# Altium schematic symbol library Evaluation Board.SchLib: 204 symbols (part 2 of 3)
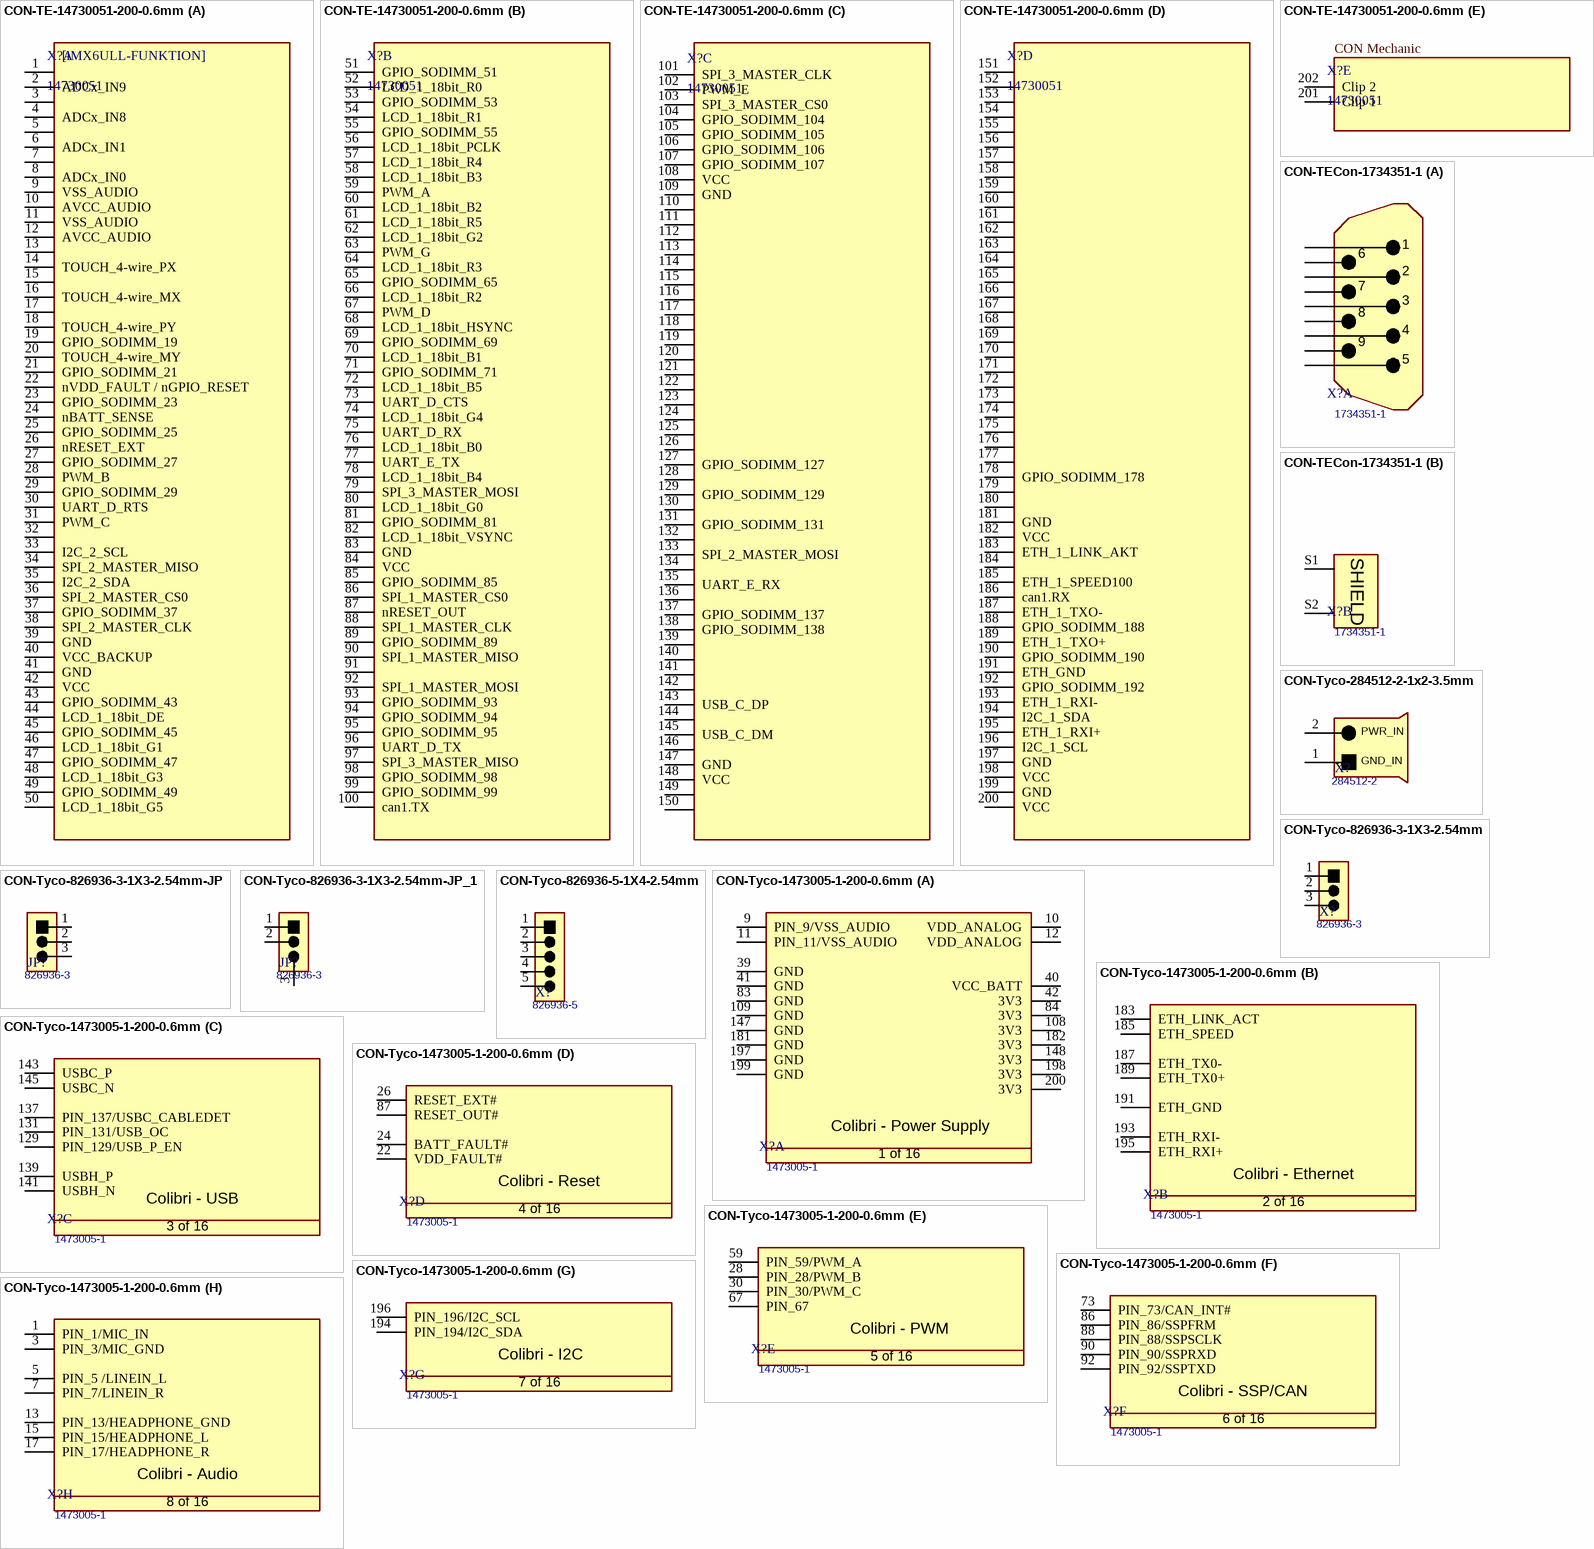
[diagram p12: symbols CON-TE-14730051-200-0.6mm to CON-Tyco-1473005-1-200-0.6mm]

## CON-TE-14730051-200-0.6mm
designator X?, comment 14730051
Conn SO DIMM Socket SKT 200 POS 0.6mm Solder RA SMD Tray; Manufacturer: TE Connectivity; Number of Contacts: 200; Memory Type: DDR SDRAM; Voltage Rating: 2.5V; PCB Mount Retention: With; Gender: Female; Insulation Resistance: 250MR; Contact Current Rating: 500mA; Circuit Application: Power; Connector System: Cable-to-Board; Sealable: No (Without); Pitch: 0.024inch; Row Spacing: 0.244inch; Stack Height: 5.2mm; PCBChecked: initials after Checked; Supplier 1: Newark; Manufacturer Part Number: 14730051; RoHS: Yes; Category: Memory Connectors; Mount: Surface Mount; Number of Pins: 200; Contact Material: Copper Alloy; Contact Plating: Gold; Housing Material: Thermoplastic; Insulation Material: Thermoplastic; Housing Color: Black; Min Operating Temperature: -67°C; Max Operating Temperature: 185°C; Number of Rows: 2; Orientation: Right Angle; Termination: Solder; Packaging: Tray; Package Quantity: 20; Number of Positions: 200; Connector Type: Socket; Length: 71.5mm; Height: 5.2mm; Depth: 26mm; Radiation Hardening: No; ELV: Compliant; Flammability Rating: UL94 V-0; Lead Free: Lead Free; REACH SVHC: No SVHC; ComponentLink1URL: https://datasheet.ciiva.com/19460/898818-19460721.pdf?src-supplier=Jameco; ComponentLink1Description: https://datasheet.ciiva.com/19460/898818-19460721.pdf?src-supplier=Jameco; ComponentLink2URL: https://datasheet.ciiva.com/15171/getdatasheetpartid-93506-15171477.pdf?src-supplier=Verical; ComponentLink2Description: https://datasheet.ciiva.com/15171/getdatasheetpartid-93506-15171477.pdf?src-supplier=Verical; ComponentLink3URL: https://datasheet.ciiva.com/16314/eng-cd-1473005-j2-16314265.pdf?src-supplier=Future+Electronics; ComponentLink3Description: https://datasheet.ciiva.com/16314/eng-cd-1473005-j2-16314265.pdf?src-supplier=Future+Electronics; ComponentLink4URL: https://datasheet.ciiva.com/1105/582309-1105220.pdf?src-supplier=Element14; ComponentLink4Description: https://datasheet.ciiva.com/1105/582309-1105220.pdf?src-supplier=Element14; ComponentLink5URL: https://datasheet.ciiva.com/14156/04821302-14156310.pdf?src-supplier=Distrelec; ComponentLink5Description: https://datasheet.ciiva.com/14156/04821302-14156310.pdf?src-supplier=Distrelec; ComponentLink6URL: https://datasheet.ciiva.com/682/eng-cd-1473005-j2-682632.pdf?src-supplier=Digi-Key; ComponentLink6Description: https://datasheet.ciiva.com/682/eng-cd-1473005-j2-682632.pdf?src-supplier=Digi-Key; ComponentLink7URL: https://datasheet.ciiva.com/3136/eng-cd-1473005-j-3136059.pdf?src-supplier=Avnet; ComponentLink7Description: https://datasheet.ciiva.com/3136/eng-cd-1473005-j-3136059.pdf?src-supplier=Avnet; ComponentLink8URL: https://datasheet.ciiva.com/16469/eng-cd-1473005-j-16469341.pdf?src-supplier=Avnet+Asia; ComponentLink8Description: https://datasheet.ciiva.com/16469/eng-cd-1473005-j-16469341.pdf?src-supplier=Avnet+Asia; IPC7352C: initials after Checked; SCHChecked: initials after Checked
footprint T_TE_14730051 (SODIMM Connector)
part A pins: 1, 2 ADCx_IN9, 3, 4 ADCx_IN8, 5, 6 ADCx_IN1, 7, 8 ADCx_IN0, 9 VSS_AUDIO, 10 AVCC_AUDIO, 11 VSS_AUDIO, 12 AVCC_AUDIO, 13, 14 TOUCH_4-wire_PX, 15, 16 TOUCH_4-wire_MX, 17, 18 TOUCH_4-wire_PY, 19 GPIO_SODIMM_19, 20 TOUCH_4-wire_MY, 21 GPIO_SODIMM_21, 22 nVDD_FAULT / nGPIO_RESET, 23 GPIO_SODIMM_23, 24 nBATT_SENSE, 25 GPIO_SODIMM_25, 26 nRESET_EXT, 27 GPIO_SODIMM_27, 28 PWM_B, 29 GPIO_SODIMM_29, 30 UART_D_RTS, 31 PWM_C, 32, 33 I2C_2_SCL, 34 SPI_2_MASTER_MISO, 35 I2C_2_SDA, 36 SPI_2_MASTER_CS0, 37 GPIO_SODIMM_37, 38 SPI_2_MASTER_CLK, 39 GND, 40 VCC_BACKUP, 41 GND, 42 VCC, 43 GPIO_SODIMM_43, 44 LCD_1_18bit_DE, 45 GPIO_SODIMM_45, 46 LCD_1_18bit_G1, 47 GPIO_SODIMM_47, 48 LCD_1_18bit_G3, 49 GPIO_SODIMM_49, 50 LCD_1_18bit_G5
part B pins: 51 GPIO_SODIMM_51, 52 LCD_1_18bit_R0, 53 GPIO_SODIMM_53, 54 LCD_1_18bit_R1, 55 GPIO_SODIMM_55, 56 LCD_1_18bit_PCLK, 57 LCD_1_18bit_R4, 58 LCD_1_18bit_B3, 59 PWM_A, 60 LCD_1_18bit_B2, 61 LCD_1_18bit_R5, 62 LCD_1_18bit_G2, 63 PWM_G, 64 LCD_1_18bit_R3, 65 GPIO_SODIMM_65, 66 LCD_1_18bit_R2, 67 PWM_D, 68 LCD_1_18bit_HSYNC, 69 GPIO_SODIMM_69, 70 LCD_1_18bit_B1, 71 GPIO_SODIMM_71, 72 LCD_1_18bit_B5, 73 UART_D_CTS, 74 LCD_1_18bit_G4, 75 UART_D_RX, 76 LCD_1_18bit_B0, 77 UART_E_TX, 78 LCD_1_18bit_B4, 79 SPI_3_MASTER_MOSI, 80 LCD_1_18bit_G0, 81 GPIO_SODIMM_81, 82 LCD_1_18bit_VSYNC, 83 GND, 84 VCC, 85 GPIO_SODIMM_85, 86 SPI_1_MASTER_CS0, 87 nRESET_OUT, 88 SPI_1_MASTER_CLK, 89 GPIO_SODIMM_89, 90 SPI_1_MASTER_MISO, 91, 92 SPI_1_MASTER_MOSI, 93 GPIO_SODIMM_93, 94 GPIO_SODIMM_94, 95 GPIO_SODIMM_95, 96 UART_D_TX, 97 SPI_3_MASTER_MISO, 98 GPIO_SODIMM_98, 99 GPIO_SODIMM_99, 100 can1.TX
part C pins: 101 SPI_3_MASTER_CLK, 102 PWM_E, 103 SPI_3_MASTER_CS0, 104 GPIO_SODIMM_104, 105 GPIO_SODIMM_105, 106 GPIO_SODIMM_106, 107 GPIO_SODIMM_107, 108 VCC, 109 GND, 110, 111, 112, 113, 114, 115, 116, 117, 118, 119, 120, 121, 122, 123, 124, 125, 126, 127 GPIO_SODIMM_127, 128, 129 GPIO_SODIMM_129, 130, 131 GPIO_SODIMM_131, 132, 133 SPI_2_MASTER_MOSI, 134, 135 UART_E_RX, 136, 137 GPIO_SODIMM_137, 138 GPIO_SODIMM_138, 139, 140, 141, 142, 143 USB_C_DP, 144, 145 USB_C_DM, 146, 147 GND, 148 VCC, 149, 150
part D pins: 151, 152, 153, 154, 155, 156, 157, 158, 159, 160, 161, 162, 163, 164, 165, 166, 167, 168, 169, 170, 171, 172, 173, 174, 175, 176, 177, 178 GPIO_SODIMM_178, 179, 180, 181 GND, 182 VCC, 183 ETH_1_LINK_AKT, 184, 185 ETH_1_SPEED100, 186 can1.RX, 187 ETH_1_TXO-, 188 GPIO_SODIMM_188, 189 ETH_1_TXO+, 190 GPIO_SODIMM_190, 191 ETH_GND, 192 GPIO_SODIMM_192, 193 ETH_1_RXI-, 194 I2C_1_SDA, 195 ETH_1_RXI+, 196 I2C_1_SCL, 197 GND, 198 VCC, 199 GND, 200 VCC
part E pins: 201 Clip 1, 202 Clip 2
part A text: [iMX6ULL-FUNKTION]
part E text: CON Mechanic

## CON-TECon-1734351-1
designator X?, comment 1734351-1
9 pin male D-SUB connector; Manufacturer Name: TE Connectivity; No. of ways: 9; PCBChecked: initials after Checked; IPC7352C: initials after Checked; SCHChecked: initials after Checked; Manufacturer Part No.: 1734351-1
footprint T_TECon_1734351-1 (9 pin male D-SUB connector)
part A pins: 1 DCD, 2 RXD, 3 TXD, 4 DTR, 5 GND, 6 DSR, 7 RTS, 8 CTS, 9 RI
part B pins: S1 SHIELD, S2 SHIELD

## CON-Tyco-284512-2-1x2-3.5mm
designator X?, comment 284512-2
Power Connector; Manufacturer Name: Tyco; No. of ways: 1x2; Pitch: 3.5mm; PCBChecked: initials after Checked; IPC7352C: initials after Checked; SCHChecked: initials after Checked; Manufacturer Part No.: 284512-2
footprint T_TYCO_284512-2 (Power Connector 3.5mm)
pins: 1 GND_IN, 2 PWR_IN

## CON-Tyco-826936-3-1X3-2.54mm
designator X?, comment 826936-3
Header, 3-Pin; Manufacturer Name: Tyco; No. of ways: 1X3; Pitch: 2.54mm; PCBChecked: initials after Checked; IPC7352C: initials after Checked; SCHChecked: initials after Checked; Manufacturer Part No.: 826936-3
footprint T_TYCO_826936-3 (Connector; Header; 3 Position)
pins: 1, 2, 3

## CON-Tyco-826936-3-1X3-2.54mm-JP
designator JP?, comment 826936-3
Jumper, 3-Pin; Manufacturer Name: Tyco; No. of ways: 1X3; Pitch: 2.54mm; PCBChecked: initials after Checked; IPC7352C: initials after Checked; SCHChecked: initials after Checked; Manufacturer Part No.: 826936-3
footprint T_TYCO_826936-3 (Connector; Header; 3 Position)
pins: 1, 2, 3

## CON-Tyco-826936-3-1X3-2.54mm-JP_1
designator JP?, comment 826936-3
Jumper, 3-Pin; Manufacturer Name: Tyco; No. of ways: 1X3; Pitch: 2.54mm; PCBChecked: initials after Checked; IPC7352C: initials after Checked; SCHChecked: initials after Checked; Manufacturer Part No.: 826936-3
footprint T_TYCO_826936-3 (Connector; Header; 3 Position)
pins: 1, 2, 3

## CON-Tyco-826936-5-1X4-2.54mm
designator X?, comment 826936-5
Header, 5-Pin; Manufacturer Name: Tyco; No. of ways: 1X5; Pitch: 2.54mm; PCBChecked: initials after Checked; IPC7352C: initials after Checked; SCHChecked: initials after Checked; Manufacturer Part No.: 826936-5
footprint T_TYCO_826936-5 (Connector, Header, 4 Position, 2.54mm pitch)
pins: 1, 2, 3, 4, 5

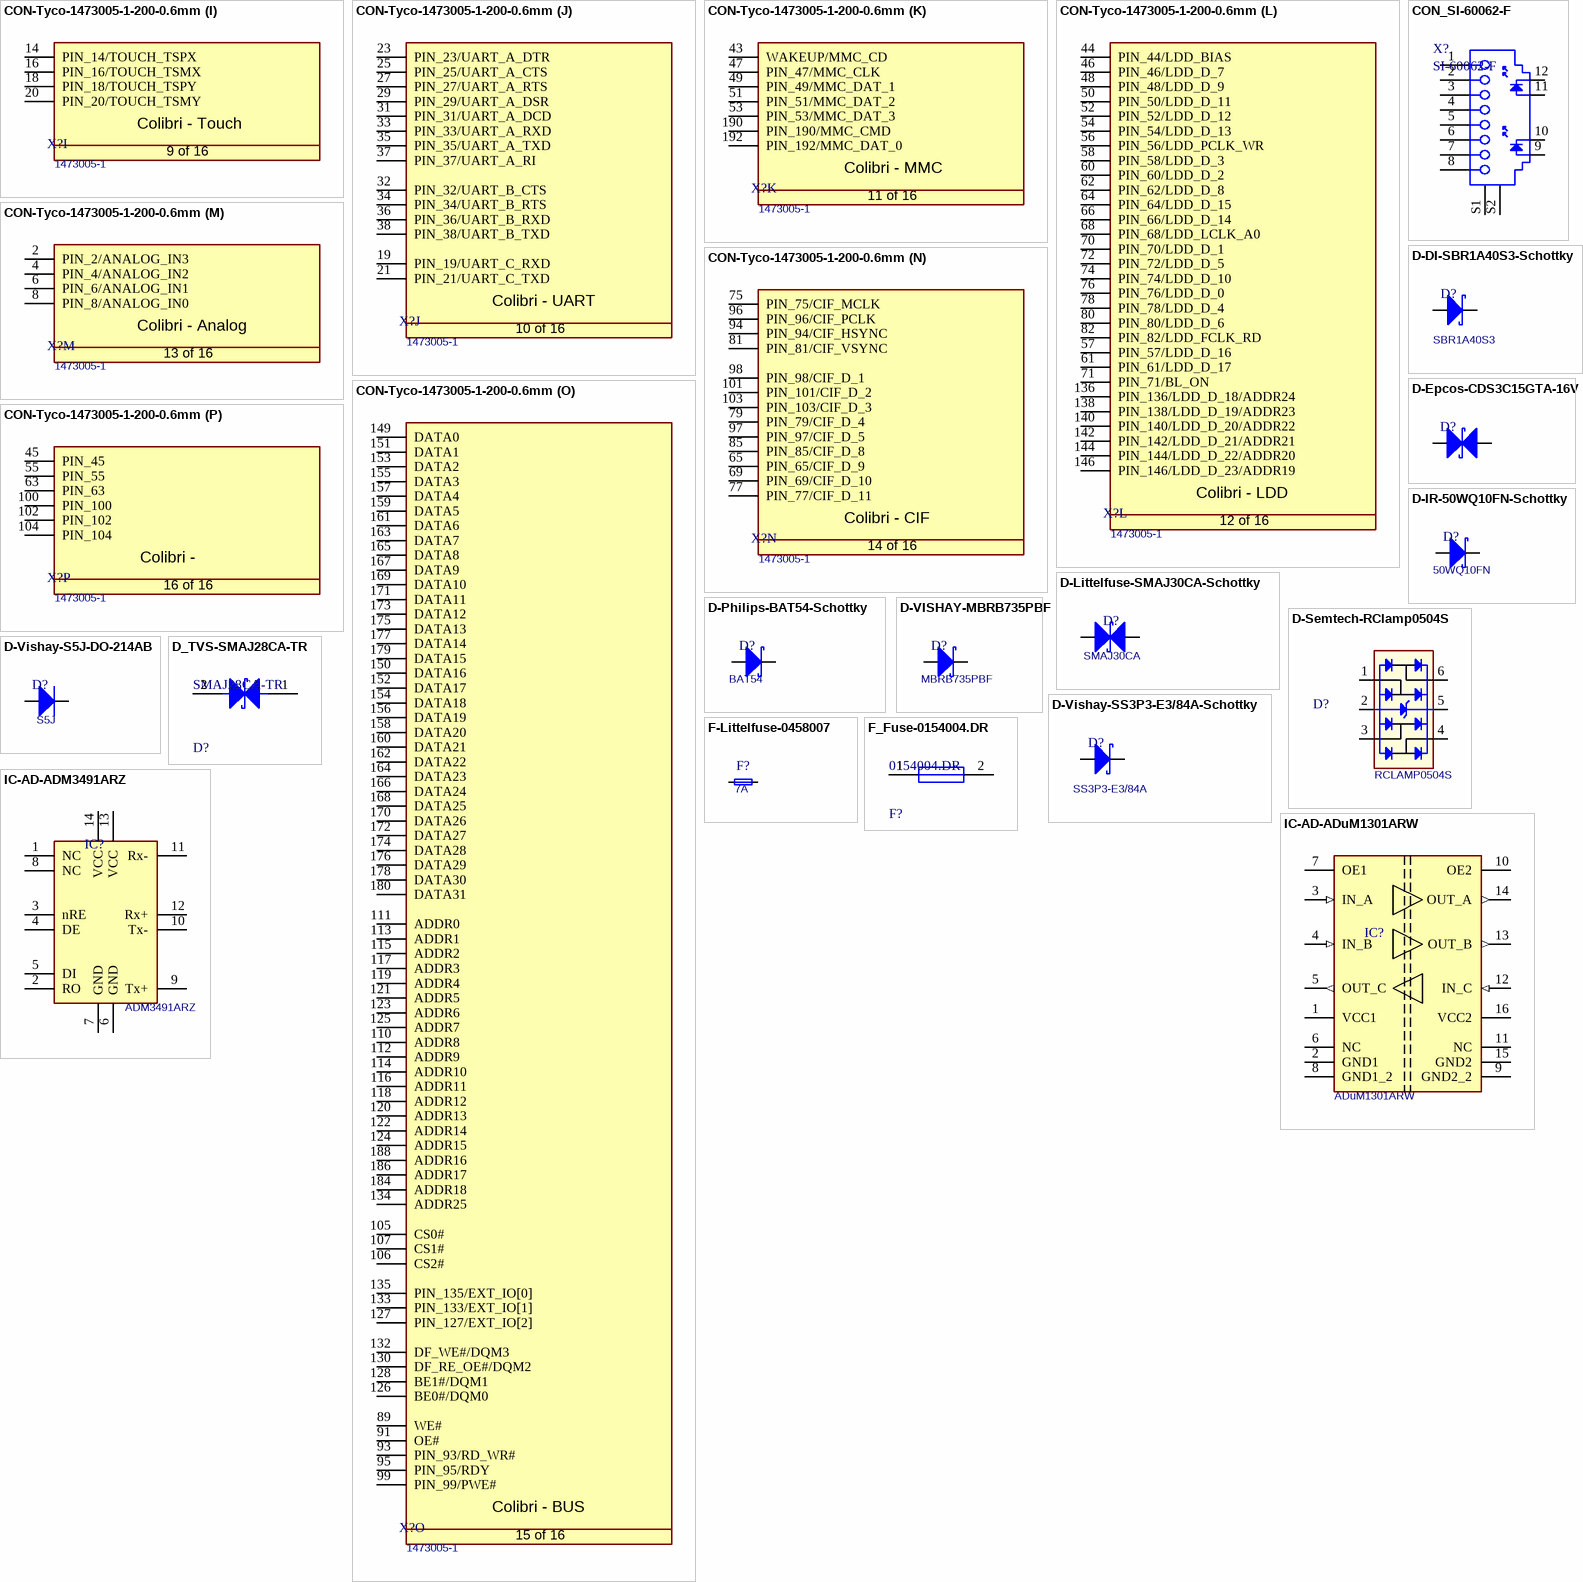
[diagram p7: symbols CON-Tyco-1473005-1-200-0.6mm to IC-AD-ADuM1301ARW]

## CON-Tyco-1473005-1-200-0.6mm
designator X?  Manufacturer Part No.: 1473005-1  (hidden comment: CON-Tyco-1473005-1-200-0.6mm)
SODIMM Connector; Manufacturer Name: Tyco; No. of ways: 200; PCBChecked: initials after Checked; IPC7352C: initials after Checked; SCHChecked: initials after Checked
footprint T_Tyco_1473005-1 (SODIMM Connector)
part A pins: 9 PIN_9/VSS_AUDIO, 10 VDD_ANALOG, 11 PIN_11/VSS_AUDIO, 12 VDD_ANALOG, 39 GND (power), 40 VCC_BATT (power), 41 GND (power), 42 3V3 (power), 83 GND (power), 84 3V3 (power), 108 3V3, 109 GND (power), 147 GND (power), 148 3V3, 181 GND (power), 182 3V3 (power), 197 GND (power), 198 3V3 (power), 199 GND (power), 200 3V3 (power)
part B pins: 183 ETH_LINK_ACT, 185 ETH_SPEED, 187 ETH_TX0-, 189 ETH_TX0+, 191 ETH_GND, 193 ETH_RXI-, 195 ETH_RXI+
part C pins: 129 PIN_129/USB_P_EN, 131 PIN_131/USB_OC, 137 PIN_137/USBC_CABLEDET, 139 USBH_P, 141 USBH_N, 143 USBC_P, 145 USBC_N
part D pins: 22 VDD_FAULT#, 24 BATT_FAULT#, 26 RESET_EXT#, 87 RESET_OUT#
part E pins: 28 PIN_28/PWM_B, 30 PIN_30/PWM_C, 59 PIN_59/PWM_A, 67 PIN_67
part F pins: 73 PIN_73/CAN_INT#, 86 PIN_86/SSPFRM, 88 PIN_88/SSPSCLK, 90 PIN_90/SSPRXD, 92 PIN_92/SSPTXD
part G pins: 194 PIN_194/I2C_SDA, 196 PIN_196/I2C_SCL
part H pins: 1 PIN_1/MIC_IN, 3 PIN_3/MIC_GND, 5 PIN_5 /LINEIN_L, 7 PIN_7/LINEIN_R, 13 PIN_13/HEADPHONE_GND, 15 PIN_15/HEADPHONE_L, 17 PIN_17/HEADPHONE_R
part I pins: 14 PIN_14/TOUCH_TSPX, 16 PIN_16/TOUCH_TSMX, 18 PIN_18/TOUCH_TSPY, 20 PIN_20/TOUCH_TSMY
part J pins: 19 PIN_19/UART_C_RXD, 21 PIN_21/UART_C_TXD, 23 PIN_23/UART_A_DTR, 25 PIN_25/UART_A_CTS, 27 PIN_27/UART_A_RTS, 29 PIN_29/UART_A_DSR, 31 PIN_31/UART_A_DCD, 32 PIN_32/UART_B_CTS, 33 PIN_33/UART_A_RXD, 34 PIN_34/UART_B_RTS, 35 PIN_35/UART_A_TXD, 36 PIN_36/UART_B_RXD, 37 PIN_37/UART_A_RI, 38 PIN_38/UART_B_TXD
part K pins: 43 WAKEUP/MMC_CD, 47 PIN_47/MMC_CLK, 49 PIN_49/MMC_DAT_1, 51 PIN_51/MMC_DAT_2, 53 PIN_53/MMC_DAT_3, 190 PIN_190/MMC_CMD, 192 PIN_192/MMC_DAT_0
part L pins: 44 PIN_44/LDD_BIAS, 46 PIN_46/LDD_D_7, 48 PIN_48/LDD_D_9, 50 PIN_50/LDD_D_11, 52 PIN_52/LDD_D_12, 54 PIN_54/LDD_D_13, 56 PIN_56/LDD_PCLK_WR, 57 PIN_57/LDD_D_16, 58 PIN_58/LDD_D_3, 60 PIN_60/LDD_D_2, 61 PIN_61/LDD_D_17, 62 PIN_62/LDD_D_8, 64 PIN_64/LDD_D_15, 66 PIN_66/LDD_D_14, 68 PIN_68/LDD_LCLK_A0, 70 PIN_70/LDD_D_1, 71 PIN_71/BL_ON, 72 PIN_72/LDD_D_5, 74 PIN_74/LDD_D_10, 76 PIN_76/LDD_D_0, 78 PIN_78/LDD_D_4, 80 PIN_80/LDD_D_6, 82 PIN_82/LDD_FCLK_RD, 136 PIN_136/LDD_D_18/ADDR24, 138 PIN_138/LDD_D_19/ADDR23, 140 PIN_140/LDD_D_20/ADDR22, 142 PIN_142/LDD_D_21/ADDR21, 144 PIN_144/LDD_D_22/ADDR20, 146 PIN_146/LDD_D_23/ADDR19
part M pins: 2 PIN_2/ANALOG_IN3, 4 PIN_4/ANALOG_IN2, 6 PIN_6/ANALOG_IN1, 8 PIN_8/ANALOG_IN0
part N pins: 65 PIN_65/CIF_D_9, 69 PIN_69/CIF_D_10, 75 PIN_75/CIF_MCLK, 77 PIN_77/CIF_D_11, 79 PIN_79/CIF_D_4, 81 PIN_81/CIF_VSYNC, 85 PIN_85/CIF_D_8, 94 PIN_94/CIF_HSYNC, 96 PIN_96/CIF_PCLK, 97 PIN_97/CIF_D_5, 98 PIN_98/CIF_D_1, 101 PIN_101/CIF_D_2, 103 PIN_103/CIF_D_3
part O pins: 89 WE#, 91 OE#, 93 PIN_93/RD_WR#, 95 PIN_95/RDY, 99 PIN_99/PWE#, 105 CS0#, 106 CS2#, 107 CS1#, 110 ADDR8, 111 ADDR0, 112 ADDR9, 113 ADDR1, 114 ADDR10, 115 ADDR2, 116 ADDR11, 117 ADDR3, 118 ADDR12, 119 ADDR4, 120 ADDR13, 121 ADDR5, 122 ADDR14, 123 ADDR6, 124 ADDR15, 125 ADDR7, 126 BE0#/DQM0, 127 PIN_127/EXT_IO[2], 128 BE1#/DQM1, 130 DF_RE_OE#/DQM2, 132 DF_WE#/DQM3, 133 PIN_133/EXT_IO[1], 134 ADDR25, 135 PIN_135/EXT_IO[0], 149 DATA0, 150 DATA16, 151 DATA1, 152 DATA17, 153 DATA2, 154 DATA18, 155 DATA3, 156 DATA19, 157 DATA4, 158 DATA20, 159 DATA5, 160 DATA21, 161 DATA6, 162 DATA22, 163 DATA7, 164 DATA23, 165 DATA8, 166 DATA24, 167 DATA9, 168 DATA25, 169 DATA10, 170 DATA26, 171 DATA11, 172 DATA27, 173 DATA12, 174 DATA28, 175 DATA13, 176 DATA29, 177 DATA14, 178 DATA30, 179 DATA15, 180 DATA31, 184 ADDR18, 186 ADDR17, 188 ADDR16
part P pins: 45 PIN_45, 55 PIN_55, 63 PIN_63, 100 PIN_100, 102 PIN_102, 104 PIN_104
part A text: Colibri - Power Supply; 1 of 16
part B text: Colibri - Ethernet; 2 of 16
part C text: Colibri - USB; 3 of 16
part D text: Colibri - Reset; 4 of 16
part E text: Colibri - PWM; 5 of 16
part F text: Colibri - SSP/CAN; 6 of 16
part G text: Colibri - I2C; 7 of 16
part H text: Colibri - Audio; 8 of 16
part I text: Colibri - Touch; 9 of 16
part J text: Colibri - UART; 10 of 16
part K text: Colibri - MMC; 11 of 16
part L text: Colibri - LDD; 12 of 16
part M text: Colibri - Analog; 13 of 16
part N text: Colibri - CIF; 14 of 16
part O text: Colibri - BUS; 15 of 16
part P text: Colibri -; 16 of 16

## CON_SI-60062-F
designator X?, comment SI-60062-F
Magjack 1:1 full magnetics LED; Manufacturer: Bel; Shielding: Shielded; Connector Type: RJ45,Socket; Number of Cores per Jack: 4; Number of Ports: 1; Direction: Down; Number of Contacts: 8; Gender: Female; Pitch: 2.54mm; Supplier 1: Digi-Key; Manufacturer Part Number: SI-60062-F; RoHS: Yes; Category: Modular / Ethernet Connectors; Mount: Through Hole; Case/Package: Metal; Contact Material: Copper Alloy,Gold; Contact Plating: Gold; Color: Green,Yellow,Silver; Housing Material: Thermoplastic; Min Operating Temperature: 0°C; Max Operating Temperature: 70°C; Packaging: Tray; Package Quantity: 50; Number of Rows: 1; Orientation: Right Angle; Termination: Solder; Number of Positions Loaded: 8; Number of Positions: 8; Length: 17.98mm; Depth: 21.59mm; Width: 17.98mm; REACH SVHC: No SVHC; Lead Free: Lead Free; ComponentLink1URL: https://datasheet.ciiva.com/687/si-60062-f-687803.pdf?src-supplier=Avnet; ComponentLink1Description: https://datasheet.ciiva.com/687/si-60062-f-687803.pdf?src-supplier=Avnet; ComponentLink2URL: https://datasheet.ciiva.com/687/si-60062-f-687803.pdf?src-supplier=Digi-Key; ComponentLink2Description: https://datasheet.ciiva.com/687/si-60062-f-687803.pdf?src-supplier=Digi-Key; ComponentLink3URL: https://datasheet.ciiva.com/26360/24-0488-26360800.pdf?src-supplier=Rapid+Electronics; ComponentLink3Description: https://datasheet.ciiva.com/26360/24-0488-26360800.pdf?src-supplier=Rapid+Electronics; ComponentLink4URL: https://datasheet.ciiva.com/11726/0900766b81002b99-11726263.pdf?src-supplier=RSComponents; ComponentLink4Description: https://datasheet.ciiva.com/11726/0900766b81002b99-11726263.pdf?src-supplier=RSComponents; ComponentLink5URL: https://datasheet.ciiva.com/8042/1523782-8042508.pdf?src-supplier=Element14; ComponentLink5Description: https://datasheet.ciiva.com/8042/1523782-8042508.pdf?src-supplier=Element14; ComponentLink6URL: https://datasheet.ciiva.com/41445/001196185-da-01-en-magjack-1xrj45-mit-leds-41445639.pdf?src-supplier=Conrad; ComponentLink6Description: https://datasheet.ciiva.com/41445/001196185-da-01-en-magjack-1xrj45-mit-leds-41445639.pdf?src-supplier=Conrad; Supplier Part Number 1: 380-1106-ND; Stock 1: 3565
footprint BELF-SI-60062-F_V (MagJack, 14-Leads, Body 21.59x16.13mm)
pins: 1 TD+, 2 TCT, 3 TD-, 4 NC, 5 RD+, 6 RCT, 7 RD-, 8 GND, 9, 10, 11, 12, S1, S2

## D-DI-SBR1A40S3-Schottky
designator D?  Manufacturer Part No.: SBR1A40S3
SUPER BARRIER RECTIFIER Schottky Diode; Manufacturer Name: Diodes Incorporated; PCBChecked: initials after Checked; IPC7352C: initials after Checked; SCHChecked: initials after Checked
footprint TO228P1003X238-3N
pins: 1, 3

## D-Epcos-CDS3C15GTA-16V
designator D?
Bidirectional ESD protection; Manufacturer Name: Epcos; Manufacturer Part No.: CDS3C15GTA; PCBChecked: initials after Checked; IPC7352C: initials after Checked; SCHChecked: initials after Checked
footprint T_Epcos_CDS3C15GTA (Bidirectional ESD Protection)
pins: P1 GND, P2 I/O line

## D-IR-50WQ10FN-Schottky
designator D?  Manufacturer Part No.: 50WQ10FN
Schottky Diode; Manufacturer Name: International Rectifier; PCBChecked: initials after Checked; IPC7352C: initials after Checked; SCHChecked: initials after Checked
footprint TO228P1003X238-3N
pins: 1, 3

## D-Littelfuse-SMAJ30CA-Schottky
designator D?  Manufacturer Part No.: SMAJ30CA
Bidirectional ESD protection; Manufacturer Name: Littelfuse; PCBChecked: initials after Checked; IPC7352C: initials after Checked; SCHChecked: initials after Checked
footprint T_LITTLEFUSE_SMAJ30CA (Bidirectional ESD protection)
pins: 1 Cathode, 2 Anode

## D-Philips-BAT54-Schottky
designator D?, comment BAT54
BAT54 Schottky Diode; Manufacturer Name: Philips; PCBChecked: initials after Checked; IPC7352C: initials after Checked; SCHChecked: initials after Checked; Manufacturer Part No.: BAT54
footprint SOT95P230X110-3N
pins: 1, 3

## D-Semtech-RClamp0504S
designator D?, comment RCLAMP0504S
TVS Array low cap; Manufacturer Name: Semtech; PCBChecked: initials after Checked; IPC7352C: initials after Checked; SCHChecked: initials after Checked; Manufacturer Part No.: RCLAMP0504S
footprint T_SOT95P285X90-6N (Footprint not found)
pins: 1 (power), 2 (power), 3 (power), 4 (power), 5 (power), 6 (power)

## D-VISHAY-MBRB735PBF
designator D?, comment MBRB735PBF
MBRB735PBF Schottky Diode; Manufacturer Name: Vishay; PCBChecked: initials after Checked; IPC7352C: initials after Checked; SCHChecked: initials after Checked; Manufacturer Part No.: MBRB735PBF
footprint T_VISHAY_MBRB735PBF
pins: 2, 3

## D-Vishay-S5J-DO-214AB
designator D?, comment S5J
Vishay S5J Rectifier; PCBChecked: initials after Checked; Manufacturer Name: Vishay; IPC7352C: initials after Checked; SCHChecked: initials after Checked; Manufacturer Part No.: S5J
footprint T_VISHAY_S5J (5A Rectifier)
pins: 1, 2

## D-Vishay-SS3P3-E3/84A-Schottky
designator D?, comment Manufacturer Part No.: SS3P3-E3/84A  (hidden comment: SS3P3)
SS3P3-E3/84A Schottky Diode; Manufacturer Name: Vishay; PCBChecked: initials after Checked; IPC7352C: initials after Checked; SCHChecked: initials after Checked
footprint T_VISHAY_SS3P3 (Schottky Barrier Rectifiers. 2-Leads, Body 3.7x1.88mm)
pins: 1, 2

## D_TVS-SMAJ28CA-TR
designator D?, comment SMAJ28CA-TR
TVS DIODE 28V 59V SMA; Manufacturer: STMicroelectronics; Direction: Bidirectional; Standoff Height: 0.05mm; Peak Pulse Current: 8.8A; Max Junction Temp: +150°C; Peak Pulse Power: 400W; Breakdown Voltage: 31.1V; Clamping Voltage: 45.4V; Number Of Channels: 1; Octopart: https://octopart.com/smaj28ca-tr-stmicroelectronics-347152; Height: 2.65mm; Automotive: No; Device Class L2: TVS Diodes; Package: DO-214AC; Digikey Description: TVS DIODE 28V 59V SMA; Reverse Standoff Voltage: 28V; Lead Free: Yes; Temperature Range Low: -55°C; Temperature Range High: +150°C; RoHS: TRUE; Device Class L3: unset; ComponentLink2Description: Datasheet; Temperature: -55°C to +150°C; ComponentLink2URL: https://upverter.com/datasheet/1a345e3312871ddec8fb928d76575f5007a64ef0.pdf; Mouser Description: TVS Diodes - Transient Voltage Suppressors 400W 28V Bidirect; Category: Diode; Manufacturer Part Number: SMAJ28CA-TR; Device Class L1: Circuit Protection
footprint D-SMAJ28CA-TR-MFG (TVS Diode SMAJ28CA)
pins: 1, 2

## F-Littelfuse-0458007
designator F?, comment 7A
Fuse 7A Fast; Manufacturer Part No.: 0458007; Manufacturer Name: Littelfuse; PCBChecked: initials after Checked; IPC7352C: initials after Checked; SCHChecked: initials after Checked; Value: 7A
footprint T_Littelfuse_0458 (Fast Fuse)
pins: 1, 2

## F_Fuse-0154004.DR
designator F?, comment 0154004.DR
FUSE BRD MNT 4A 125VAC/VDC 2SMD; Manufacturer: Littelfuse; Fuse Blow Speed: Fast; Max Fuse Ac Voltage: 125V; Lead Free: Yes; Device Class L3: unset; Manufacturer Part Number: 0154004.DR; Device Class L2: Fuses; Package: 0154; ComponentLink2Description: Datasheet; Temperature Range Low: -55°C; Temperature Range High: +125°C; Device Class L1: Circuit Protection; Height: 3.81mm; Temperature: -55°C to +125°C; Mouser Description: Surface Mount Fuses Fuseblock w/ fuse 4A OMNI BLOK 154; Automotive: No; Digikey Description: FUSE BRD MNT 4A 125VAC/VDC 2SMD; RoHS: TRUE; Category: Fuse; Fuse Current: 4A; Max Fuse Dc Voltage: 125V; ComponentLink2URL: https://www.littelfuse.com/~/media/electronics/datasheets/fuses/littelfuse_fuse_154_154t_154l_154tl_datasheet.pdf.pdf; Octopart: https://octopart.com/0154004.dr-littelfuse-565861
footprint F_FUSE-154005 (Littlefuse 154005 im Sockel)
pins: 1, 2

## IC-AD-ADM3491ARZ
designator IC?, comment ADM3491ARZ
ADM3491ARZ RS-485/RS-422 transceiver; Manufacturer Name: Analog Devices; PCBChecked: initials after Checked; Manufacturer Part No.: ADM3491ARZ; IPC7352C: initials after Checked; SCHChecked: initials after Checked
footprint SOIC127P600X175-14N (SOIC 14 pin)
pins: 1 NC, 2 RO, 3 nRE, 4 DE, 5 DI, 6 GND, 7 GND, 8 NC, 9 Tx+, 10 Tx-, 11 Rx-, 12 Rx+, 13 VCC, 14 VCC

## IC-AD-ADuM1301ARW
designator IC?, comment ADuM1301ARW
Digital Isolator; Manufacturer Name: Analog Devices; PCBChecked: initials after Checked; Manufacturer Part No.: ADuM1301ARW; IPC7352C: initials after Checked; SCHChecked: initials after Checked
footprint T_AD_ADuM1300ARW (SOIC _W 16 pin)
pins: 1 VCC1, 2 GND1 (power), 3 IN_A (in), 4 IN_B (in), 5 OUT_C (out), 6 NC, 7 OE1, 8 GND1_2 (power), 9 GND2_2 (power), 10 OE2, 11 NC, 12 IN_C (in), 13 OUT_B (out), 14 OUT_A (out), 15 GND2 (power), 16 VCC2

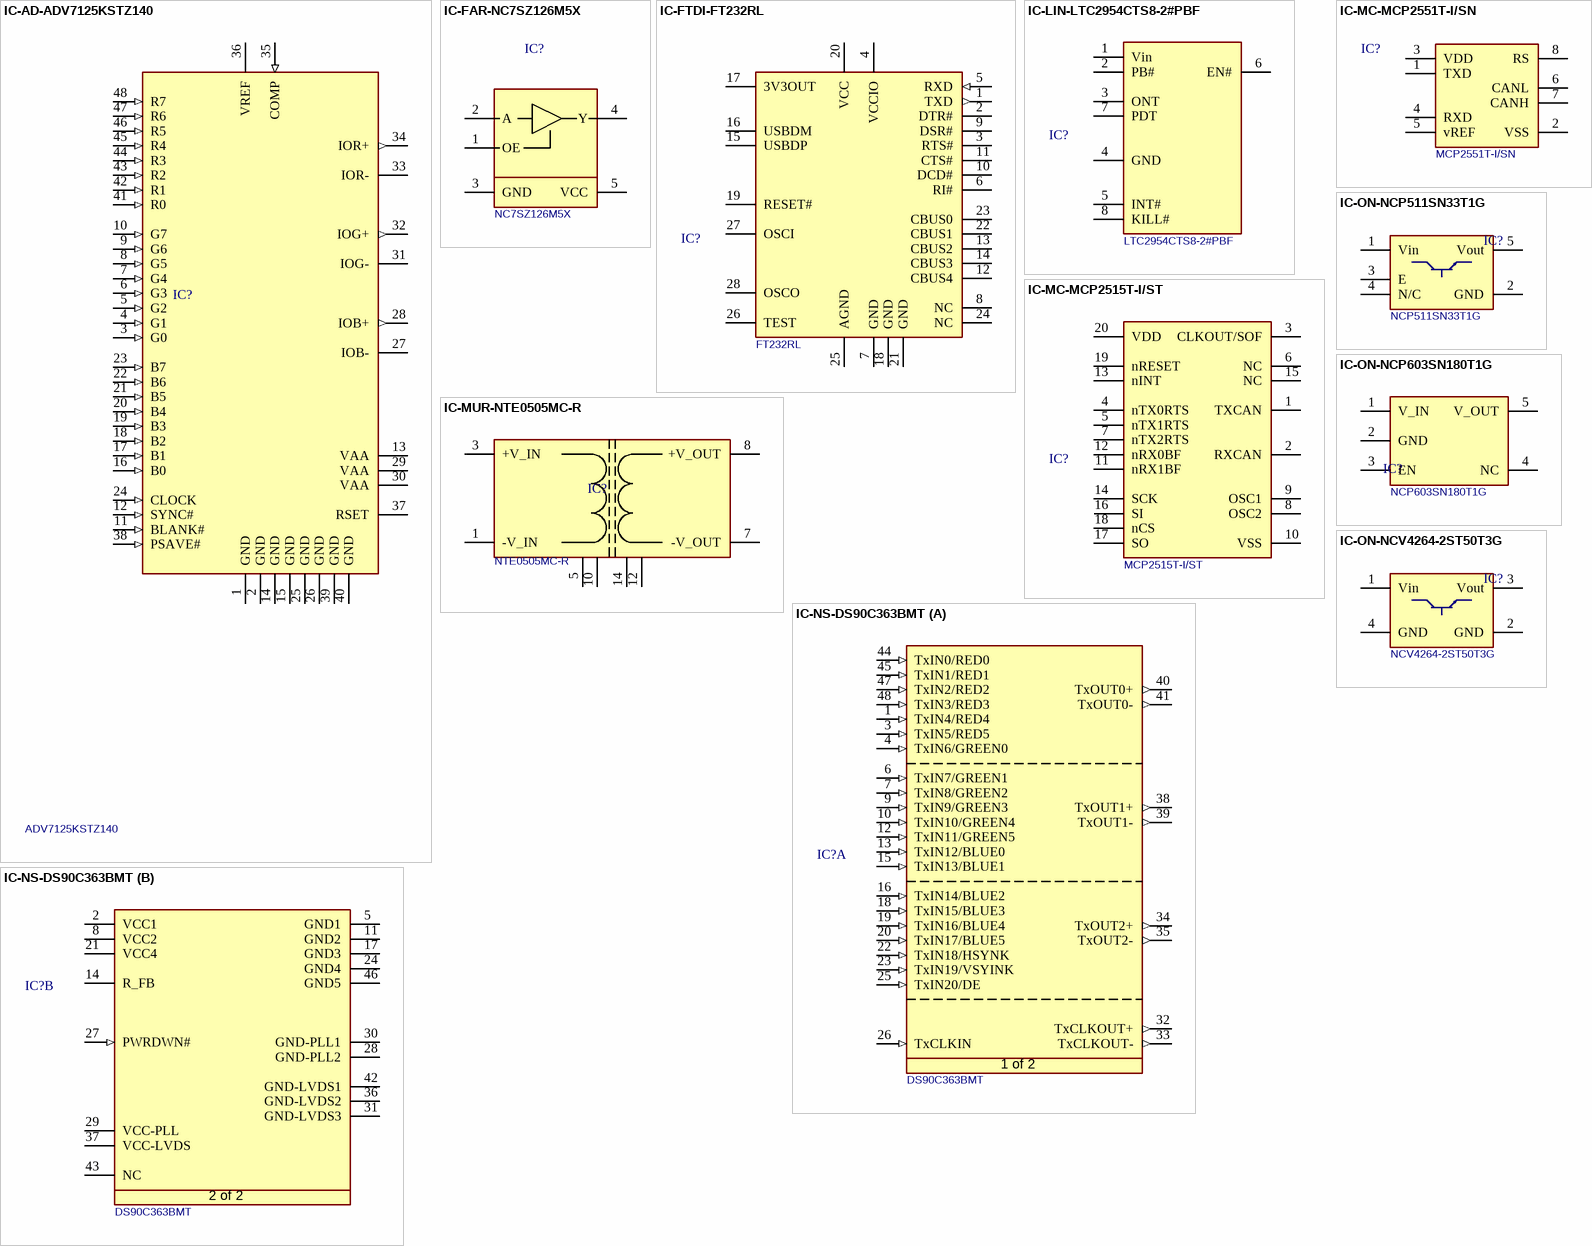
[diagram p8: symbols IC-AD-ADV7125KSTZ140 to IC-ON-NCV4264-2ST50T3G]

## IC-AD-ADV7125KSTZ140
designator IC?, comment ADV7125KSTZ140
Video DAC 8bit 140MHz; Manufacturer Name: Analog Devices; PCBChecked: initials after Checked; Manufacturer Part No.: ADV7125KSTZ140; IPC7352C: initials after Checked; SCHChecked: initials after Checked
footprint QFP50P900X900X120-48N
pins: 1 GND (power), 2 GND (power), 3 G0 (in), 4 G1 (in), 5 G2 (in), 6 G3 (in), 7 G4 (in), 8 G5 (in), 9 G6 (in), 10 G7 (in), 11 BLANK# (in), 12 SYNC# (in), 13 VAA (power), 14 GND (power), 15 GND (power), 16 B0 (in), 17 B1 (in), 18 B2 (in), 19 B3 (in), 20 B4 (in), 21 B5 (in), 22 B6 (in), 23 B7 (in), 24 CLOCK (in), 25 GND (power), 26 GND (power), 27 IOB- (power), 28 IOB+ (out), 29 VAA (power), 30 VAA (power), 31 IOG- (power), 32 IOG+ (out), 33 IOR- (power), 34 IOR+ (out), 35 COMP (in), 36 VREF (power), 37 RSET, 38 PSAVE# (in), 39 GND (power), 40 GND (power), 41 R0 (in), 42 R1 (in), 43 R2 (in), 44 R3 (in), 45 R4 (in), 46 R5 (in), 47 R6 (in), 48 R7 (in)

## IC-FAR-NC7SZ126M5X
designator IC?, comment NC7SZ126M5X
NC7SZ126M5X  Buffer Three-State Output; Manufacturer Name: Fairchild Semiconductor; PCBChecked: initials after Checked; Manufacturer Part No.: NC7SZ126M5X; IPC7352C: initials after Checked; SCHChecked: initials after Checked
footprint SOT95P279X142-5N
pins: 1 OE, 2 A, 3 GND, 4 Y, 5 VCC

## IC-FTDI-FT232RL
designator IC?, comment FT232RL
FT232R USB TO UART; Manufacturer Name: FTDI; PCBChecked: initials after Checked; Manufacturer Part No.: FT232RL; IPC7352C: initials after Checked; SCHChecked: initials after Checked
footprint T_FTDI_FT232RL (28-Pin SSOP 0.65 mm Pitch)
pins: 1 TXD (out), 2 DTR#, 3 RTS#, 4 VCCIO, 5 RXD (in), 6 RI#, 7 GND, 8 NC, 9 DSR#, 10 DCD#, 11 CTS#, 12 CBUS4, 13 CBUS2, 14 CBUS3, 15 USBDP, 16 USBDM, 17 3V3OUT, 18 GND, 19 RESET#, 20 VCC, 21 GND, 22 CBUS1, 23 CBUS0, 24 NC, 25 AGND, 26 TEST, 27 OSCI, 28 OSCO

## IC-LIN-LTC2954CTS8-2#PBF
designator IC?, comment LTC2954CTS8-2#PBF
Push Button On/Off Controller; Manufacturer Name: Linear; PCBChecked: initials after Checked; Manufacturer Part No.: LTC2954CTS8-2#PBF; IPC7352C: initials after Checked; SCHChecked: initials after Checked
footprint T_LINEAR_LTC2954CTS8-2#PBF
pins: 1 Vin, 2 PB#, 3 ONT, 4 GND, 5 INT#, 6 EN#, 7 PDT, 8 KILL#

## IC-MC-MCP2515T-I/ST
designator IC?, comment Manufacturer Part No.: MCP2515T-I/ST  (hidden comment: MCP2515)
CAN controller with SPI Interface; Manufacturer Name: Microchip; PCBChecked: initials after Checked; IPC7352C: initials after Checked; SCHChecked: initials after Checked
footprint T_MC_MCP2515T-I/ST (TSSOP20)
pins: 1 TXCAN, 2 RXCAN, 3 CLKOUT/SOF, 4 nTX0RTS, 5 nTX1RTS, 6 NC, 7 nTX2RTS, 8 OSC2, 9 OSC1, 10 VSS (power), 11 nRX1BF, 12 nRX0BF, 13 nINT, 14 SCK, 15 NC, 16 SI, 17 SO, 18 nCS, 19 nRESET, 20 VDD

## IC-MC-MCP2551T-I/SN
designator IC?, comment MCP2551T-I/SN
High speed CAN Transceiver; Manufacturer Name: Microchip; PCBChecked: initials after Checked; Manufacturer Part No.: MCP2551T-I/SN; IPC7352C: initials after Checked; SCHChecked: initials after Checked
footprint SOIC127P600X173-8N
pins: 1 TXD, 2 VSS, 3 VDD, 4 RXD, 5 vREF, 6 CANL, 7 CANH, 8 RS

## IC-MUR-NTE0505MC-R
designator IC?, comment NTE0505MC-R
Isolated DC/DC Converter; Manufacturer Name: Murata; PCBChecked: initials after Checked; Manufacturer Part No.: NTE0505MC-R; IPC7352C: initials after Checked; SCHChecked: initials after Checked
footprint T_MURATA_NTE0505MC-R (Isolated DC/DC converter)
pins: 1 -V_IN (power), 3 +V_IN (power), 5 NC, 7 -V_OUT (power), 8 +V_OUT (power), 10 NC, 12 NC, 14 NC

## IC-NS-DS90C363BMT
designator IC?, comment DS90C363BMT
LVDS Converter; Manufacturer Name: National Semiconductor; PCBChecked: initials after Checked; Manufacturer Part No.: DS90C363BMT; IPC7352C: initials after Checked; SCHChecked: initials after Checked
footprint SOP50P810X120-48N
part A pins: 1 TxIN4/RED4 (in), 3 TxIN5/RED5 (in), 4 TxIN6/GREEN0 (in), 6 TxIN7/GREEN1 (in), 7 TxIN8/GREEN2 (in), 9 TxIN9/GREEN3 (in), 10 TxIN10/GREEN4 (in), 12 TxIN11/GREEN5 (in), 13 TxIN12/BLUE0 (in), 15 TxIN13/BLUE1 (in), 16 TxIN14/BLUE2 (in), 18 TxIN15/BLUE3 (in), 19 TxIN16/BLUE4 (in), 20 TxIN17/BLUE5 (in), 22 TxIN18/HSYNK (in), 23 TxIN19/VSYINK (in), 25 TxIN20/DE (in), 26 TxCLKIN (in), 32 TxCLKOUT+ (out), 33 TxCLKOUT- (out), 34 TxOUT2+ (out), 35 TxOUT2- (out), 38 TxOUT1+ (out), 39 TxOUT1- (out), 40 TxOUT0+ (out), 41 TxOUT0- (out), 44 TxIN0/RED0 (in), 45 TxIN1/RED1 (in), 47 TxIN2/RED2 (in), 48 TxIN3/RED3 (in)
part B pins: 2 VCC1 (power), 5 GND1 (power), 8 VCC2 (power), 11 GND2 (power), 14 R_FB (power), 17 GND3 (power), 21 VCC4 (power), 24 GND4 (power), 27 PWRDWN# (in), 28 GND-PLL2 (power), 29 VCC-PLL (power), 30 GND-PLL1 (power), 31 GND-LVDS3 (power), 36 GND-LVDS2 (power), 37 VCC-LVDS (power), 42 GND-LVDS1 (power), 43 NC, 46 GND5 (power)
part A text: 1 of 2
part B text: 2 of 2

## IC-ON-NCP511SN33T1G
designator IC?, comment NCP511SN33T1G
NCP511SN33T1G LDO Regulator; Manufacturer Name: ON Semiconductor; PCBChecked: initials after Checked; Manufacturer Part No.: NCP511SN33T1G; IPC7352C: initials after Checked; SCHChecked: initials after Checked
footprint SOT95P279X142-5N
pins: 1 Vin, 2 GND, 3 E, 4 N/C, 5 Vout

## IC-ON-NCP603SN180T1G
designator IC?, comment NCP603SN180T1G
CMOS LDO Regulator; Manufacturer Name: ON; PCBChecked: initials after Checked; Manufacturer Part No.: NCP603SN180T1G; IPC7352C: initials after Checked; SCHChecked: initials after Checked
footprint T_ON_NCP603SN180T1G (SOT 23)
pins: 1 V_IN (power), 2 GND (power), 3 EN, 4 NC, 5 V_OUT

## IC-ON-NCV4264-2ST50T3G
designator IC?, comment NCV4264-2ST50T3G
NCV4264-2ST50T3G LDO Regulator; Manufacturer Name: ON Semiconductor; PCBChecked: initials after Checked; Manufacturer Part No.: NCV4264-2ST50T3G; IPC7352C: initials after Checked; SCHChecked: initials after Checked
footprint T_ON_NCV4264-2ST50T3G (SO4)
pins: 1 Vin, 2 GND, 3 Vout, 4 GND

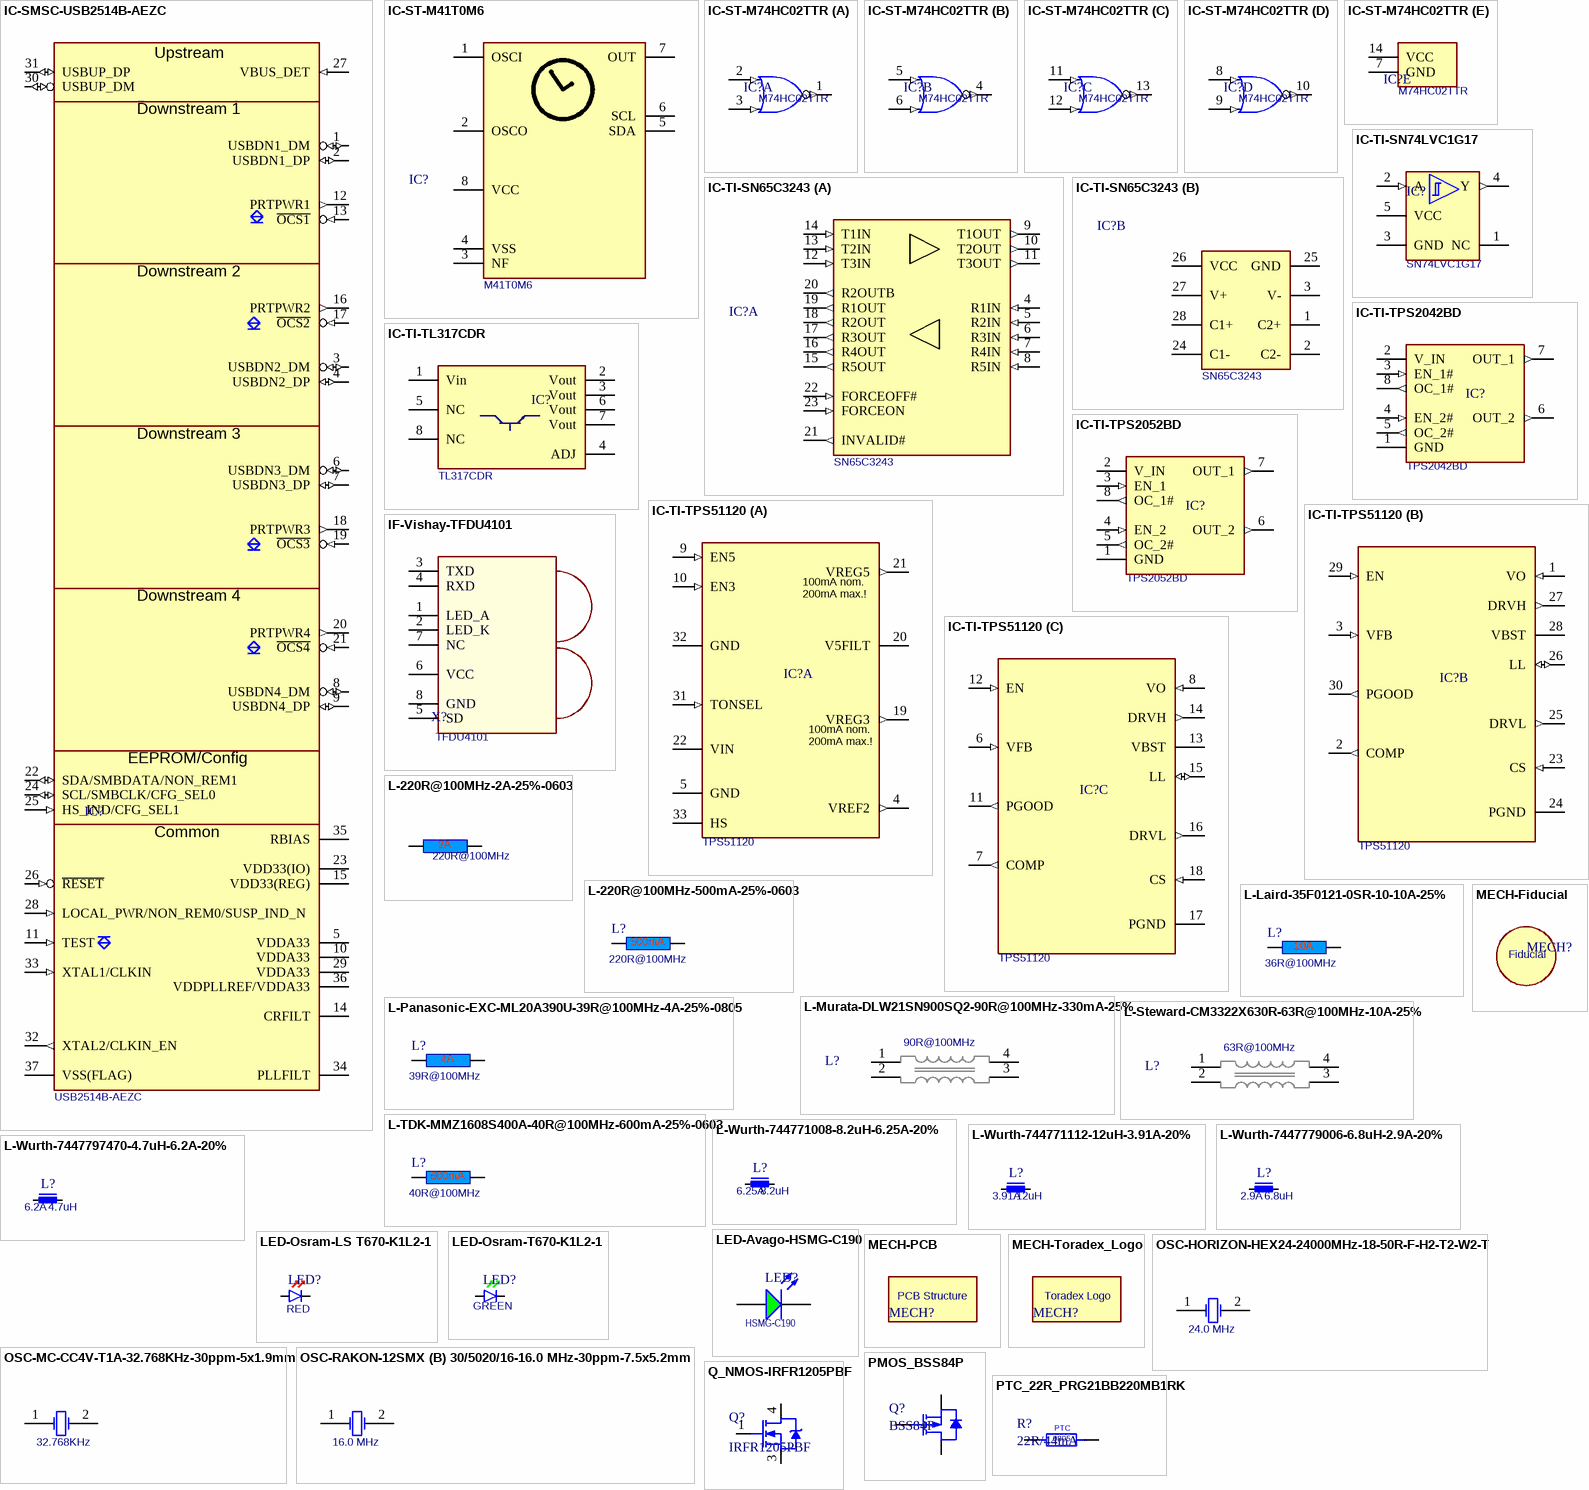
[diagram p9: symbols IC-SMSC-USB2514B-AEZC to Q_NMOS-IRFR1205PBF]

## IC-SMSC-USB2514B-AEZC
designator IC?, comment Manufacturer Part No.: USB2514B-AEZC  (hidden comment: USB2514B)
4 Port USB HUB; Manufacturer Name: SMSC; PCBChecked: initials after Checked; IPC7352C: initials after Checked; SCHChecked: initials after Checked
footprint T_SMSC_USB2514B-AEZC (QFN, 36-Leads, Body 6x6mm, Pitch 0.5mm, IPC High Density)
pins: 1 USBDN1_DM (io), 2 USBDN1_DP (io), 3 USBDN2_DM (io), 4 USBDN2_DP (io), 5 VDDA33 (power), 6 USBDN3_DM (io), 7 USBDN3_DP (io), 8 USBDN4_DM (io), 9 USBDN4_DP (io), 10 VDDA33 (power), 11 TEST (in), 12 PRTPWR1 (out), 13 ~{OCS1} (in), 14 CRFILT (power), 15 VDD33(REG) (power), 16 PRTPWR2 (out), 17 ~{OCS2} (in), 18 PRTPWR3 (out), 19 ~{OCS3} (in), 20 PRTPWR4 (out), 21 ~{OCS4} (in), 22 SDA/SMBDATA/NON_REM1 (io), 23 VDD33(IO) (power), 24 SCL/SMBCLK/CFG_SEL0 (io), 25 HS_IND/CFG_SEL1 (in), 26 ~{RESET} (in), 27 VBUS_DET (in), 28 LOCAL_PWR/NON_REM0/SUSP_IND_N (in), 29 VDDA33 (power), 30 USBUP_DM (io), 31 USBUP_DP (io), 32 XTAL2/CLKIN_EN (out), 33 XTAL1/CLKIN (in), 34 PLLFILT (power), 35 RBIAS, 36 VDDPLLREF/VDDA33 (power), 37 VSS(FLAG) (power)
text: Upstream; Downstream 1; Downstream 2; Downstream 3; Downstream 4; EEPROM/Config; Common

## IC-ST-M41T0M6
designator IC?, comment M41T0M6
RTC M41T0M6; Manufacturer Name: ST; PCBChecked: initials after Checked; Manufacturer Part No.: M41T0M6; IPC7352C: initials after Checked; SCHChecked: initials after Checked
footprint SOIC127P600X173-8N
pins: 1 OSCI, 2 OSCO, 3 NF, 4 VSS, 5 SDA, 6 SCL, 7 OUT, 8 VCC

## IC-ST-M74HC02TTR
designator IC?, comment M74HC02TTR
Quad 2-Input NOR Gate; Manufacturer Name: ST Microelectronics; PCBChecked: initials after Checked; Manufacturer part No.: M74HC02TTR; IPC7352C: initials after Checked; SCHChecked: initials after Checked
footprint T_ST_M74HC02TTR (Shrink Small Outline; 14 Leads; Body Width 4.4 mm; Pitch 0.65 mm)
part A pins: 1 ~{O} (out), 2 A (in), 3 B (in)
part B pins: 4 ~{O} (out), 5 A (in), 6 B (in)
part C pins: 11 A (in), 12 B (in), 13 ~{O} (out)
part D pins: 8 A (in), 9 B (in), 10 ~{O} (out)
part E pins: 7 GND (power), 14 VCC (power)

## IC-TI-SN65C3243
designator IC?, comment SN65C3243
RS-232 Serial Transceiver; Manufacturer Name: Texas Instruments; PCBChecked: initials after Checked; Manufacturer Part No.: SN65C3243; IPC7352C: initials after Checked; SCHChecked: initials after Checked
footprint SOP65P780X200-28N
part A pins: 4 R1IN (in), 5 R2IN (in), 6 R3IN (in), 7 R4IN (in), 8 R5IN (in), 9 T1OUT (out), 10 T2OUT (out), 11 T3OUT (out), 12 T3IN (in), 13 T2IN (in), 14 T1IN (in), 15 R5OUT (out), 16 R4OUT (out), 17 R3OUT (out), 18 R2OUT (out), 19 R1OUT (out), 20 R2OUTB (out), 21 INVALID# (out), 22 FORCEOFF# (in), 23 FORCEON (in)
part B pins: 1 C2+ (power), 2 C2- (power), 3 V- (power), 24 C1- (power), 25 GND (power), 26 VCC (power), 27 V+ (power), 28 C1+ (power)

## IC-TI-SN74LVC1G17
designator IC?, comment SN74LVC1G17
Single Schmitt-Trigger Buffer; Manufacturer Name: Texas Instruments; PCBChecked: initials after Checked; Manufacturer Part No.: SN74LVC1G17; IPC7352C: initials after Checked; SCHChecked: initials after Checked
footprint SOT65P210X110-5N
pins: 1 NC, 2 A (in), 3 GND (power), 4 Y (out), 5 VCC (power)

## IC-TI-TL317CDR
designator IC?, comment TL317CDR
TL317CDR LDO Regulator; Manufacturer Name: Texas Instruments; PCBChecked: initials after Checked; Manufacturer Part No.: TL317CDR; IPC7352C: initials after Checked; SCHChecked: initials after Checked
footprint SOIC127P600X173-8N
pins: 1 Vin, 2 Vout, 3 Vout, 4 ADJ, 5 NC, 6 Vout, 7 Vout, 8 NC

## IC-TI-TPS2042BD
designator IC?, comment TPS2042BD
Dual High Side Switch With OC_DET 500mA/CH; Manufacturer Name: Texas Instruments; PCBChecked: initials after Checked; Manufacturer Part No.: TPS2042BD; IPC7352C: initials after Checked; SCHChecked: initials after Checked
footprint SOIC127P600X173-8N
pins: 1 GND (power), 2 V_IN (power), 3 EN_1# (in), 4 EN_2# (in), 5 OC_2# (out), 6 OUT_2 (out), 7 OUT_1 (out), 8 OC_1# (out)

## IC-TI-TPS2052BD
designator IC?, comment TPS2052BD
Dual High Side Switch With OC_DET 500mA/CH; Manufacturer Name: Texas Instruments; PCBChecked: initials after Checked; Manufacturer Part No.: TPS2052BD; IPC7352C: initials after Checked; SCHChecked: initials after Checked
footprint SOIC127P600X173-8N
pins: 1 GND (power), 2 V_IN (power), 3 EN_1 (in), 4 EN_2 (in), 5 OC_2# (out), 6 OUT_2 (out), 7 OUT_1 (out), 8 OC_1# (out)

## IC-TI-TPS51120
designator IC?, comment TPS51120
Power Supply Controller; Manufacturer Name: Texas Instruments; PCBChecked: initials after Checked; IPC7352C: initials after Checked; SCHChecked: initials after Checked; Manufacturer Part No.: TPS51120
footprint QFN50P500X500X100-33N
part A pins: 4 VREF2 (out), 5 GND (power), 9 EN5 (in), 10 EN3 (in), 19 VREG3 (out), 20 V5FILT (power), 21 VREG5 (out), 22 VIN (power), 31 TONSEL (in), 32 GND (power), 33 HS
part B pins: 1 VO (in), 2 COMP (out), 3 VFB (in), 23 CS (in), 24 PGND (power), 25 DRVL (out), 26 LL (io), 27 DRVH (out), 28 VBST (power), 29 EN (in), 30 PGOOD (out)
part C pins: 6 VFB (in), 7 COMP (out), 8 VO (in), 11 PGOOD (out), 12 EN (in), 13 VBST, 14 DRVH (out), 15 LL (io), 16 DRVL (out), 17 PGND (power), 18 CS (in)
part A text: 100mA nom.; 200mA max.!

## IF-Vishay-TFDU4101
designator X?  Manufacturer Part No.: TFDU4101
Vishay TFDU4101 Infrared Transceiver; PCBChecked: initials after Checked; Manufacturer Name: Vishay; IPC7352C: initials after Checked; SCHChecked: initials after Checked
footprint T_Vishay_TFDU4101 (Infrared Transceiver Module)
pins: 1 LED_A, 2 LED_K, 3 TXD, 4 RXD, 5 SD, 6 VCC, 7 NC, 8 GND

## L-220R@100MHz-2A-25%-0603
designator L?, comment 220R@100MHz
220R@100MHz 2A EMI FILTER; Tolerance: 25%; PCBChecked: initials after Checked; Rating: 2A; Value: 220R@100MHz; IPC7352C: initials after Checked; SCHChecked: initials after Checked
footprint INDC1608X95N
pins: 1, 2

## L-220R@100MHz-500mA-25%-0603
designator L?, comment 220R@100MHz
220R@100MHz 500mA EMI FILTER; Tolerance: 25%; PCBChecked: initials after Checked; Rating: 500mA; Value: 220R@100MHz; IPC7352C: initials after Checked; SCHChecked: initials after Checked
footprint INDC1608X95N
pins: 1, 2

## L-Laird-35F0121-0SR-10-10A-25%
designator L?, comment 36R@100MHz
Power Supply FB 10A; Tolerance: 25%; PCBChecked: initials after Checked; Rating: 10A; Value: 36R@100MHz; IPC7352C: initials after Checked; SCHChecked: initials after Checked
footprint T_Laird_35F0121-0SR-10 (Power supply FB 10A)
pins: 1, 2

## L-Murata-DLW21SN900SQ2-90R@100MHz-330mA-25%
designator L?, comment 90R@100MHz
Common Mode Choke High Speed 90R 330mA; Manufacturer Name: Murata; Manufacturer Part No.: DLW21SN900SQ2; Tolerance: 25%; PCBChecked: initials after Checked; Rating: 330mA; Value: 90R@100MHz; IPC7352C: initials after Checked; SCHChecked: initials after Checked
footprint T_Murata_DLW21SN900SQ2 (Common Mode Choke)
pins: 1, 2, 3, 4

## L-Panasonic-EXC-ML20A390U-39R@100MHz-4A-25%-0805
designator L?, comment 39R@100MHz
39R@100MHz 4A EMI FILTER; Manufacturer Name: Panasonic; Manufacturer Name: EXC-ML20A390U; Tolerance: 25%; PCBChecked: initials after Checked; Rating: 4A; Value: 39R@100MHz; IPC7352C: initials after Checked; SCHChecked: initials after Checked
footprint INDC2013X130N
pins: 1, 2

## L-Steward-CM3322X630R-63R@100MHz-10A-25%
designator L?, comment 63R@100MHz
Common Mode Choke 63R 10A; Manufacturer Name: Steward; Manufacturer Part No.: CM3322X630R-10; Tolerance: 25%; PCBChecked: initials after Checked; Rating: 10A; Value: 63R@100MHz; IPC7352C: initials after Checked; SCHChecked: initials after Checked
footprint T_Steward_CM3322X630R-10 (Common Mode Choke)
pins: 1, 2, 3, 4

## L-TDK-MMZ1608S400A-40R@100MHz-600mA-25%-0603
designator L?, comment 40R@100MHz
40R@100MHz 600mA EMI FILTER; Manufacturer Part No.: MMZ1608S400A; Manufacturer Name: TDK; Tolerance: 25%; PCBChecked: initials after Checked; Rating: 600mA; Value: 40R@100MHz; IPC7352C: initials after Checked; SCHChecked: initials after Checked
footprint INDC1608X95N
pins: 1, 2

## L-Wurth-744771008-8.2uH-6.25A-20%
designator L?, comment Rating: 6.25A  (hidden comment: 8.2uH)
Inductance 8.2uH 6.25A 20%; Manufacturer Name: Wurth; Manufacturer Part No.: 744771008; PCBChecked: initials after Checked; Tolerance: 20%; Value: 8.2uH; IPC7352C: initials after Checked; SCHChecked: initials after Checked
footprint T_INDM120120X80N
pins: 1, 2

## L-Wurth-744771112-12uH-3.91A-20%
designator L?, comment Rating: 3.91A  (hidden comment: 12uH)
Inductance 12uH 3.91A 20%; Manufacturer Name: Wurth; Manufacturer Part No.: 744771112; PCBChecked: initials after Checked; Tolerance: 20%; Value: 12uH; IPC7352C: initials after Checked; SCHChecked: initials after Checked
footprint T_INDM120120X80N
pins: 1, 2

## L-Wurth-7447779006-6.8uH-2.9A-20%
designator L?, comment Rating: 2.9A  (hidden comment: 6.8uH)
Inductance 6.8uH 2.9A 20%; Manufacturer Name: Wurth; Manufacturer Part No.: 7447779006; PCBChecked: initials after Checked; Tolerance: 20%; Value: 6.8uH; IPC7352C: initials after Checked; SCHChecked: initials after Checked
footprint T_INDM7373X45N
pins: 1, 2

## L-Wurth-7447797470-4.7uH-6.2A-20%
designator L?, comment Rating: 6.2A  (hidden comment: 4.7uH)
Inductance 4.7uH 6.2A 20%; Manufacturer Name: Wurth; Manufacturer Part No.: 7447797470; PCBChecked: initials after Checked; Tolerance: 20%; Value: 4.7uH; IPC7352C: initials after Checked; SCHChecked: initials after Checked
footprint T_INDM102102X45N
pins: 1, 2

## LED-Avago-HSMG-C190
designator LED?, comment Manufacturer Part No.: HSMG-C190  (hidden comment: LED)
Surface mount LED green 20mA; Manufacturer Name: Avago; PCBChecked: initials after Checked; IPC7352C: initials after Checked; SCHChecked: initials after Checked
footprint LEDC1608X80N
pins: 1 K, 2 A

## LED-Osram-LS T670-K1L2-1
designator LED?, comment Color: RED  (hidden comment: LS T670-K1L2-1)
LED red, Osram LS T670-K1L2-1; PCBChecked: initials after Checked; Manufacturer Part N.: LS T670-K1L2-1; Manufacturer Name: Osram; IPC7352C: initials after Checked; SCHChecked: initials after Checked
footprint T_Osram_T670_RED (LED-Osram-T670)
pins: A, K

## LED-Osram-T670-K1L2-1
designator LED?, comment Color: GREEN  (hidden comment: LG T670-K1L2-1)
LED green Osram LG T670-K1L2-1; PCBChecked: initials after Checked; Manufacturer Name: Osram; Manufacturer Part N.: LG T670-K1L2-1; IPC7352C: initials after Checked; SCHChecked: initials after Checked
footprint T_Osram_T670_GREEN (LED-Osram-T670)
pins: A, K

## MECH-Fiducial
designator MECH?  (value not drawn)
Fiducial; PCBChecked: initials after Checked; IPC7352C: initials after Checked; SCHChecked: initials after Checked
footprint T_Fiducial (Fiducial)

## MECH-PCB
designator MECH?  (value not drawn)
PCB Structure; PCBChecked: initials after Checked; IPC7352C: initials after Checked; SCHChecked: initials after Checked
footprint PCB (PCB Holes)

## MECH-Toradex_Logo
designator MECH?  (value not drawn)
Toradex_Logo; PCBChecked: initials after Checked; IPC7352C: initials after Checked; SCHChecked: initials after Checked
footprint T_TORADEX_LOGO (Toradex Logo)
text: Toradex Logo

## OSC-HORIZON-HEX24-24000MHz-18-50R-F-H2-T2-W2-T
designator OSC?, comment value 24.0 MHz  (hidden comment: HEX24-24000MHz-18-50R-F-H2-T2-W2-T)
Quartz 24.0 MHz; Manufacturer Name: HORIZON; Tolerance: 30ppm; PCBChecked: initials after Checked; Manufacturer Part No.: HEX24-24000MHz-18-50R-F-H2-T2-W2-T; IPC7352C: initials after Checked; SCHChecked: initials after Checked
footprint T_HORIZON-HEX24 (OSC)
pins: 1 OSC1, 2 OSC2

## OSC-MC-CC4V-T1A-32.768KHz-30ppm-5x1.9mm
designator OSC?, comment value 32.768KHz  (hidden comment: CC4V-T1A)
Quartz 32.768kHz; Manufacturer Name: Micro Crystal; Tolerance: 30ppm; PCBChecked: initials after Checked; Manufacturer Part No.: CC4V-T1A; IPC7352C: initials after Checked; SCHChecked: initials after Checked
footprint T_MC_CC4V-T1A
pins: 1 OSC1, 2 OSC2

## OSC-RAKON-12SMX (B) 30/5020/16-16.0 MHz-30ppm-7.5x5.2mm
designator OSC?, comment value 16.0 MHz  (hidden comment: 12SMX (B) 30/5020/16)
Quartz 16.0 MHz; Manufacturer Name: RAKON; Tolerance: 30ppm; PCBChecked: initials after Checked; Manufacturer Part No.: 12SMX (B) 30/5020/16; IPC7352C: initials after Checked; SCHChecked: initials after Checked
footprint T_RAKON_12SMX (OSC)
pins: 1 OSC1, 2 OSC2

## PMOS_BSS84P
designator Q?, comment BSS84P
Single P-Channel 60 V 8 Ohm 1 nC SIPMOS® Small Signal Mosfet - SOT-23; Manufacturer: Infineon; Gate to Source Voltage (Vgs): 20V; Power Dissipation: 360mW; Continuous Drain Current (ID): -170mA; Input Capacitance: 15pF; Voltage: 60V; Drain to Source Resistance: 12R; Turn-Off Delay Time: 8.6ns; Turn-On Delay Time: 6.7ns; Threshold Voltage: -1.5V; Number of Channels: 1; PCBChecked: initials after Checked; Supplier 1: Digi-Key; Manufacturer Part Number: BSS84P; RoHS: Yes; Category: MOSFETs; Case/Package: SOT-23; Number of Pins: 3; Min Operating Temperature: -55°C; Max Operating Temperature: 150°C; Packaging: Tape and Reel; Max Power Dissipation: 360mW; Element Configuration: Single; On-State Resistance: 12R; Nominal Vgs: -1.5V; Length: 2.9mm; Height: 0.9mm; Width: 1.3mm; Halogen Free: Halogen Free; REACH SVHC: No SVHC; ComponentLink1URL: https://datasheet.ciiva.com/1190/98914-1190307.pdf?src-supplier=Element14; ComponentLink1Description: https://datasheet.ciiva.com/1190/98914-1190307.pdf?src-supplier=Element14; ComponentLink2URL: https://datasheet.ciiva.com/14109/je611677-e-14109692.pdf?src-supplier=Distrelec; ComponentLink2Description: https://datasheet.ciiva.com/14109/je611677-e-14109692.pdf?src-supplier=Distrelec; Supplier Part Number 1: BSS84PH6327XTSA2CT-ND; Stock 1: 144419; IPC7352C: initials after Checked; SCHChecked: initials after Checked
footprint BSS84P_SOT95P240X110-3N (SOT23, 3-Leads, Body 2,90x2,40mm, Pitch 0,95mm, IPC Medium Density)
pins: 1G G, 2S D, 3D S

## PTC_22R_PRG21BB220MB1RK
designator R?, comment 22R/44mA
Thermistor PTC 22 Ohm 20% 2-Pin 0805 Surface Mount Solder Pad T/R; Manufacturer Part Number: PRG21BB220MB1RK; Manufacturer: Murata; Resistance: 22R; Current Rating: 110mA; Voltage: 20V; Max Current Rating: 1.1A; Hold Current: 30mA; PCBChecked: initials after Checked; Supplier 1: Digi-Key; RoHS: Yes; Category: PTC Resettable Fuses; Mount: Surface Mount; Case/Package: 0805; Number of Pins: 2; Case Code (Metric): 2012; Case Code (Imperial): 0805; Min Operating Temperature: -10°C; Max Operating Temperature: 60°C; Packaging: Tape and Reel; Package Quantity: 3000; Termination: SMD/SMT; Tolerance: 20%; Trip Current: 110mA; Length: 2mm; Height: 1.25mm; Depth: 1.25mm; Width: 800um; Radiation Hardening: No; Lead Free: Lead Free; ComponentLink1URL: https://datasheet.ciiva.com/30488/0900766b81259d6c-30488304.pdf?src-supplier=RSComponents; ComponentLink1Description: https://datasheet.ciiva.com/30488/0900766b81259d6c-30488304.pdf?src-supplier=RSComponents; ComponentLink2URL: https://datasheet.ciiva.com/16477/prf18bc471qb1rb-16477217.pdf?src-supplier=Future+Electronics; ComponentLink2Description: https://datasheet.ciiva.com/16477/prf18bc471qb1rb-16477217.pdf?src-supplier=Future+Electronics; ComponentLink3URL: https://datasheet.ciiva.com/325/pthat15-325994.pdf?src-supplier=Digi-Key; ComponentLink3Description: https://datasheet.ciiva.com/325/pthat15-325994.pdf?src-supplier=Digi-Key; ComponentLink4URL: https://datasheet.ciiva.com/3280/r90e-3280581.pdf?src-supplier=Avnet; ComponentLink4Description: https://datasheet.ciiva.com/3280/r90e-3280581.pdf?src-supplier=Avnet; ComponentLink5URL: https://datasheet.ciiva.com/325/pthat15-325995.pdf?src-supplier=Digi-Key; ComponentLink5Description: https://datasheet.ciiva.com/325/pthat15-325995.pdf?src-supplier=Digi-Key; ComponentLink6URL: https://datasheet.ciiva.com/325/pthat15-325996.pdf?src-supplier=Digi-Key; ComponentLink6Description: https://datasheet.ciiva.com/325/pthat15-325996.pdf?src-supplier=Digi-Key; ComponentLink7URL: https://datasheet.ciiva.com/16634/r90e-16634335.pdf?src-supplier=Avnet+Europe; ComponentLink7Description: https://datasheet.ciiva.com/16634/r90e-16634335.pdf?src-supplier=Avnet+Europe; Supplier Part Number 1: 490-3989-1-ND; Stock 1: 3347; IPC7352C: initials after Checked; SCHChecked: initials after Checked
footprint R-PTC-0805 (Chip Resistor, 2-Leads, Body 2,00x1,25mm, IPC Medium Density)
pins: 1, 2
text: PTC

## Q_NMOS-IRFR1205PBF
designator Q?, comment IRFR1205PBF
HEXFET(R) Power MOSFET, 55 V, 44 A, 27 mOhm, -55 to 175 degC, 3-Pin DPAK (TO-252AA), RoHS, Tube; Manufacturer: International Rectifier; Drain-to-Source Voltage [Vdss]: 55V; Rated Power Dissipation: 107W; Channel Type: N-Channel; Qg Gate Charge: 65nC; Drain-Source On Resistance-Max: 0.027O; Mounting Technology: SurfaceMount; Package Reference: TO-252AA-3; Datasheet URL: http://www.infineon.com/dgdl/irfr1205pbf.pdf?fileId=5546d462533600a40153562d17792047; Package Description: 3-Pin Surface Mount Device, Body 6.54 x 6.095 mm, Pitch 2.29 mm; Manufacturer URL: http://internationalrectifier.com/; Datasheet Version: 12/2004
footprint NMOS-TO-252AA-3_M (DPAK, 3-Leads, Body 6.75x6.22mm, Pitch 2.29mm, IPC Low Density)
pins: 1 G, 3 S, 4 D

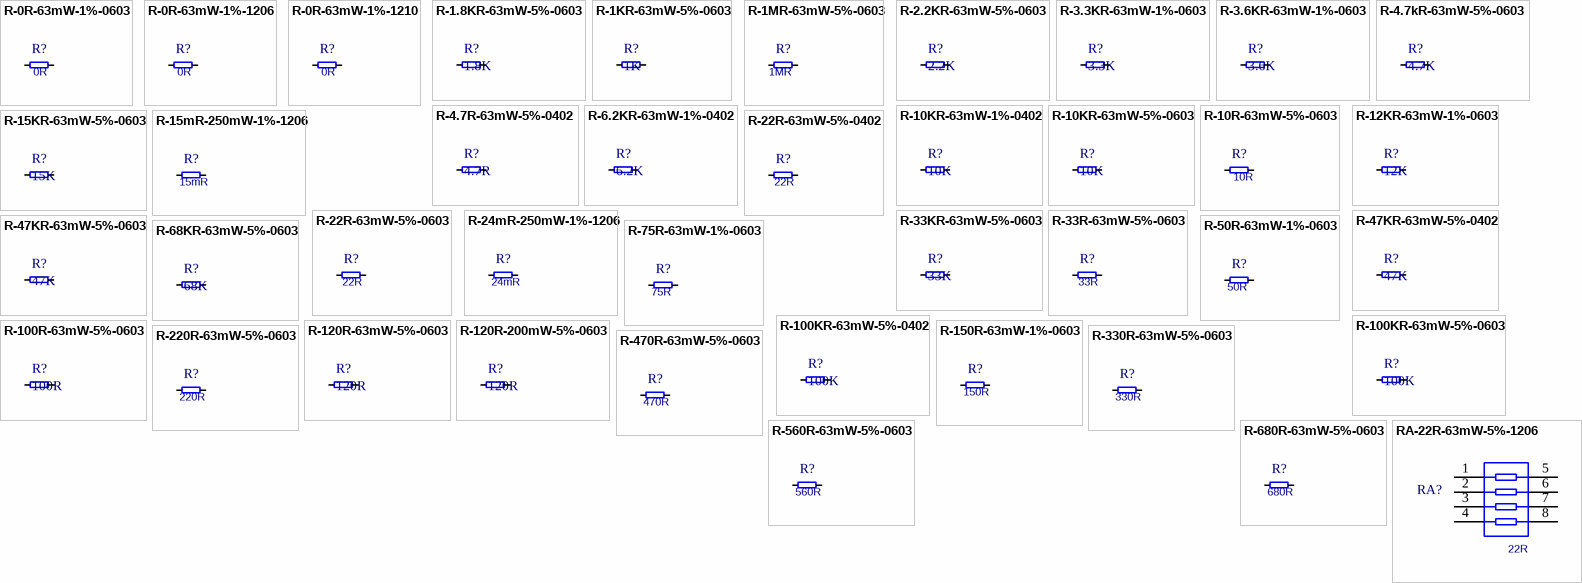
[diagram p10: symbols R-0R-63mW-1%-0603 to RA-22R-63mW-5%-1206]

## R-0R-63mW-1%-0603
designator R?, comment 0R
Resistor 0 ohm 63mW 1% 0603; PCBChecked: initials after Checked; Rating: 63mW; Tolerance: 1%; Value: 0R; IPC7352C: initials after Checked; SCHChecked: initials after Checked
footprint T_RESC0603X30N
pins: 1, 2

## R-0R-63mW-1%-1206
designator R?, comment 0R
Resistor 0 ohm 63mW 1% 1206; PCBChecked: initials after Checked; Rating: 63mW; Tolerance: 1%; Value: 0R; IPC7352C: initials after Checked; SCHChecked: initials after Checked
footprint T_RESC3216X760N
pins: 1, 2

## R-0R-63mW-1%-1210
designator R?, comment 0R
Resistor 0 ohm 63mW 1% 1210; PCBChecked: initials after Checked; Rating: 63mW; Tolerance: 1%; Value: 0R; IPC7352C: initials after Checked; SCHChecked: initials after Checked
footprint T_RESC3225X30N
pins: 1, 2

## R-1.8KR-63mW-5%-0603
designator R?, comment 1.8K
Resistor 1.8 Kohm 63mW 5% 0603; Value: 1.8KR; PCBChecked: initials after Checked; Rating: 63mW; Tolerance: 5%; IPC7352C: initials after Checked; SCHChecked: initials after Checked
footprint T_RESC0603X30N
pins: 1, 2

## R-1KR-63mW-5%-0603
designator R?, comment 1K
Resistor 1 Kohm 63mW 5% 0603; PCBChecked: initials after Checked; Rating: 63mW; Tolerance: 5%; Value: 1K; IPC7352C: initials after Checked; SCHChecked: initials after Checked
footprint T_RESC0603X30N
pins: 1, 2

## R-1MR-63mW-5%-0603
designator R?, comment 1MR
Resistor 1Mohm 63mW 5% 0603; PCBChecked: initials after Checked; Rating: 63mW; Tolerance: 5%; Value: 1MR; IPC7352C: initials after Checked; SCHChecked: initials after Checked
footprint T_RESC0603X30N
pins: 1, 2

## R-2.2KR-63mW-5%-0603
designator R?, comment 2.2K
Resistor 2.2Kohm 63mW 5% 0603; Value: 2.2KR; PCBChecked: initials after Checked; Rating: 63mW; Tolerance: 5%; IPC7352C: initials after Checked; SCHChecked: initials after Checked
footprint T_RESC0603X30N
pins: 1, 2

## R-3.3KR-63mW-1%-0603
designator R?, comment 3.3K
Resistor 3.3 Kohm 63mW 1% 0603; Value: 3.3KR; PCBChecked: initials after Checked; Rating: 63mW; Tolerance: 1%; IPC7352C: initials after Checked; SCHChecked: initials after Checked
footprint T_RESC0603X30N
pins: 1, 2

## R-3.6KR-63mW-1%-0603
designator R?, comment 3.6K
Resistor 3.6 Kohm 63mW 1% 0603; Value: 3.6KR; PCBChecked: initials after Checked; Rating: 63mW; Tolerance: 1%; IPC7352C: initials after Checked; SCHChecked: initials after Checked
footprint T_RESC0603X30N
pins: 1, 2

## R-4.7kR-63mW-5%-0603
designator R?, comment 4.7K
Resistor 4.7 Kohm 63mW 5% 0603; Value: 4.7KR; PCBChecked: initials after Checked; Rating: 63mW; Tolerance: 5%; IPC7352C: initials after Checked; SCHChecked: initials after Checked
footprint t_RESC0603X30N
pins: 1, 2

## R-4.7R-63mW-5%-0402
designator R?, comment 4.7R
Resistor 4.7 ohm 63mW 5% 0402; PCBChecked: initials after Checked; Rating: 63mW; Tolerance: 5%; Value: 4.7R; IPC7352C: initials after Checked; SCHChecked: initials after Checked
footprint RESC1005X40N
pins: 1, 2

## R-6.2KR-63mW-1%-0402
designator R?, comment 6.2K
Resistor 6.2 Kohm 63mW 1% 0402; Value: 6.2KR; PCBChecked: initials after Checked; Rating: 63mW; Tolerance: 1%; IPC7352C: initials after Checked; SCHChecked: initials after Checked
footprint RESC1005X40N
pins: 1, 2

## R-10KR-63mW-1%-0402
designator R?, comment 10K
Resistor 10 Kohm 63mW 1% 0402; Value: 10KR; PCBChecked: initials after Checked; Rating: 63mW; Tolerance: 1%; IPC7352C: initials after Checked; SCHChecked: initials after Checked
footprint RESC1005X40N
pins: 1, 2

## R-10KR-63mW-5%-0603
designator R?, comment 10K
Resistor 10 Kohm 63mW 5% 0603; Value: 10KR; PCBChecked: initials after Checked; Rating: 63mW; Tolerance: 5%; IPC7352C: initials after Checked; SCHChecked: initials after Checked
footprint T_RESC0603X30N
pins: 1, 2

## R-10R-63mW-5%-0603
designator R?, comment 10R
Resistor 10 ohm 63mW 5% 0603; PCBChecked: initials after Checked; Rating: 63mW; Tolerance: 5%; Value: 10R; IPC7352C: initials after Checked; SCHChecked: initials after Checked
footprint T_RESC0603X30N
pins: 1, 2

## R-12KR-63mW-1%-0603
designator R?, comment 12K
Resistor 12 Kohm 63mW 1% 0603; Value: 12KR; PCBChecked: initials after Checked; Rating: 63mW; Tolerance: 1%; IPC7352C: initials after Checked; SCHChecked: initials after Checked
footprint T_RESC0603X30N
pins: 1, 2

## R-15KR-63mW-5%-0603
designator R?, comment 15K
Resistor 15 Kohm 63mW 5% 0603; Value: 15KR; PCBChecked: initials after Checked; Rating: 63mW; Tolerance: 5%; IPC7352C: initials after Checked; SCHChecked: initials after Checked
footprint T_RESC0603X30N
pins: 1, 2

## R-15mR-250mW-1%-1206
designator R?, comment 15mR
Resistor 15 mohm 250mW 1% 1206; PCBChecked: initials after Checked; Rating: 250mW; Tolerance: 1%; Value: 15mR; IPC7352C: initials after Checked; SCHChecked: initials after Checked
footprint RESC3316X76N
pins: 1, 2

## R-22R-63mW-5%-0402
designator R?, comment 22R
Resistor 22 ohm 63mW 5% 0402; PCBChecked: initials after Checked; Rating: 63mW; Tolerance: 5%; Value: 22R; IPC7352C: initials after Checked; SCHChecked: initials after Checked
footprint RESC1005X40N
pins: 1, 2

## R-22R-63mW-5%-0603
designator R?, comment 22R
Resistor 22 ohm 63mW 5% 0603; PCBChecked: initials after Checked; Rating: 63mW; Tolerance: 5%; Value: 22R; IPC7352C: initials after Checked; SCHChecked: initials after Checked
footprint T_RESC0603X30N
pins: 1, 2

## R-24mR-250mW-1%-1206
designator R?, comment 24mR
Resistor 24 mohm 250mW 1% 1206; PCBChecked: initials after Checked; Rating: 250mW; Tolerance: 1%; Value: 24mR; IPC7352C: initials after Checked; SCHChecked: initials after Checked
footprint RESC3316X76N
pins: 1, 2

## R-33KR-63mW-5%-0603
designator R?, comment 33K
Resistor 33 Kohm 63mW 5% 0603; Value: 33KR; PCBChecked: initials after Checked; Rating: 63mW; Tolerance: 5%; IPC7352C: initials after Checked; SCHChecked: initials after Checked
footprint T_RESC0603X30N
pins: 1, 2

## R-33R-63mW-5%-0603
designator R?, comment 33R
Resistor 33 ohm 63mW 5% 0603; PCBChecked: initials after Checked; Rating: 63mW; Tolerance: 5%; Value: 33R; IPC7352C: initials after Checked; SCHChecked: initials after Checked
footprint T_RESC0603X30N
pins: 1, 2

## R-47KR-63mW-5%-0402
designator R?, comment 47K
Resistor 47 Kohm 63mW 5% 0402; Value: 47KR; PCBChecked: initials after Checked; Rating: 63mW; Tolerance: 5%; IPC7352C: initials after Checked; SCHChecked: initials after Checked
footprint RESC1005X40N
pins: 1, 2

## R-47KR-63mW-5%-0603
designator R?, comment 47K
Resistor 47 Kohm 63mW 5% 0603; Value: 47KR; PCBChecked: initials after Checked; Rating: 63mW; Tolerance: 5%; IPC7352C: initials after Checked; SCHChecked: initials after Checked
footprint T_RESC0603X30N
pins: 1, 2

## R-50R-63mW-1%-0603
designator R?, comment 50R
Resistor 50 ohm 63mW 1% 0603; PCBChecked: initials after Checked; Rating: 63mW; Tolerance: 1%; Value: 50R; IPC7352C: initials after Checked; SCHChecked: initials after Checked
footprint T_RESC0603X30N
pins: 1, 2